# Altium schematic symbol library A7672S.SchLib: 1 symbol
Pins are listed as number, name and electrical type; pins without a type are passive.

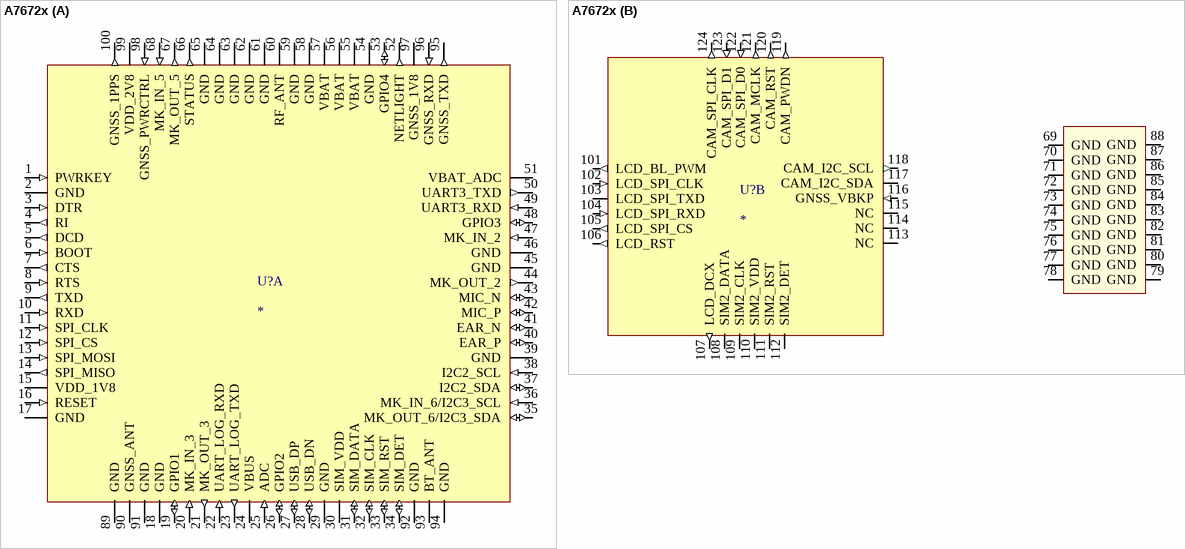
[diagram p0: symbol A7672x]

## A7672x
designator U?
LTE CAT 1 module, 2,3,4G; MFR: SIMCOM; MPN: A7672S; Company ID: VT_Module_A7672S
footprint A7672
part A pins: 1 PWRKEY (in), 2 GND (power), 3 DTR (in), 4 RI (out), 5 DCD (out), 6 BOOT (in), 7 CTS (out), 8 RTS (in), 9 TXD (out), 10 RXD (in), 11 SPI_CLK (in), 12 SPI_CS (in), 13 SPI_MOSI (in), 14 SPI_MISO (out), 15 VDD_1V8 (power), 16 RESET (in), 17 GND (power), 18 GND (power), 19 GPIO1 (io), 20 MK_IN_3 (in), 21 MK_OUT_3 (out), 22 UART_LOG_RXD (in), 23 UART_LOG_TXD (out), 24 VBUS (power), 25 ADC (in), 26 GPIO2 (io), 27 USB_DP (io), 28 USB_DN (io), 29 GND (power), 30 SIM_VDD (power), 31 SIM_DATA (io), 32 SIM_CLK (io), 33 SIM_RST (io), 34 SIM_DET (io), 35 MK_OUT_6/I2C3_SDA (io), 36 MK_IN_6/I2C3_SCL (in), 37 I2C2_SDA (io), 38 I2C2_SCL (in), 39 GND (power), 40 EAR_P (io), 41 EAR_N (io), 42 MIC_P (io), 43 MIC_N (io), 44 MK_OUT_2 (out), 45 GND (power), 46 GND (power), 47 MK_IN_2 (in), 48 GPIO3 (io), 49 UART3_RXD (in), 50 UART3_TXD (out), 51 VBAT_ADC (power), 52 NETLIGHT (out), 53 GPIO4 (io), 54 GND (power), 55 VBAT (power), 56 VBAT (power), 57 VBAT (power), 58 GND (power), 59 GND (power), 60 RF_ANT, 61 GND (power), 62 GND (power), 63 GND (power), 64 GND (power), 65 GND (power), 66 STATUS (out), 67 MK_OUT_5 (out), 68 MK_IN_5 (in), 89 GND (power), 90 GNSS_ANT, 91 GND (power), 92 GND (power), 93 BT_ANT, 94 GND (power), 95 GNSS_TXD (out), 96 GNSS_RXD (in), 97 GNSS_1V8 (power), 98 GNSS_PWRCTRL (in), 99 VDD_2V8 (power), 100 GNSS_1PPS (out)
part B pins: 69 GND (power), 70 GND (power), 71 GND (power), 72 GND (power), 73 GND (power), 74 GND (power), 75 GND (power), 76 GND (power), 77 GND (power), 78 GND (power), 79 GND (power), 80 GND (power), 81 GND (power), 82 GND (power), 83 GND (power), 84 GND (power), 85 GND (power), 86 GND (power), 87 GND (power), 88 GND (power), 101 LCD_BL_PWM (out), 102 LCD_SPI_CLK (in), 103 LCD_SPI_TXD (io), 104 LCD_SPI_RXD (in), 105 LCD_SPI_CS (out), 106 LCD_RST (out), 107 LCD_DCX (out), 108 SIM2_DATA (io), 109 SIM2_CLK (io), 110 SIM2_VDD (power), 111 SIM2_RST (io), 112 SIM2_DET (io), 113 NC, 114 NC, 115 NC, 116 GNSS_VBKP (in), 117 CAM_I2C_SDA (io), 118 CAM_I2C_SCL (out), 119 CAM_PWDN (out), 120 CAM_RST (out), 121 CAM_MCLK (out), 122 CAM_SPI_D0 (in), 123 CAM_SPI_D1 (in), 124 CAM_SPI_CLK (out)